# Altium integrated library ATB322524-0110.IntLib: 1 symbol
Pins are listed as number, name and electrical type; pins without a type are passive.

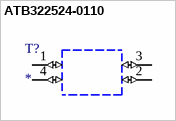
[diagram p0: symbol ATB322524-0110]

## ATB322524-0110
designator T?
Audio Transformers / Signal Transformers NEW MFG PN 810-ATB32240110T000; MF: TDK; MP: ATB322524-0110; SnapEDA_Link: https://www.snapeda.com/parts/ATB322524-0110/TDK/view-part/?ref=snap; Package: None; Value: *; Check_prices: https://www.snapeda.com/parts/ATB322524-0110/TDK/view-part/?ref=eda
footprint ATB3225240110
pins: 1 (io), 2 4 (io), 3 (io), 4 2 (io)